# Altium footprint library transform.PcbLib: 46 footprints (part 1 of 3)
Each footprint in its own frame and in the unit in brackets; x right, y up, seen from the top. Pads: shape width x height; smd on the part's side, far side on the other; paste and mask are expansions set on the pad; w line width, h text height; cw(c..) or ccw(c..) is an arc to the next point about the centre after c.
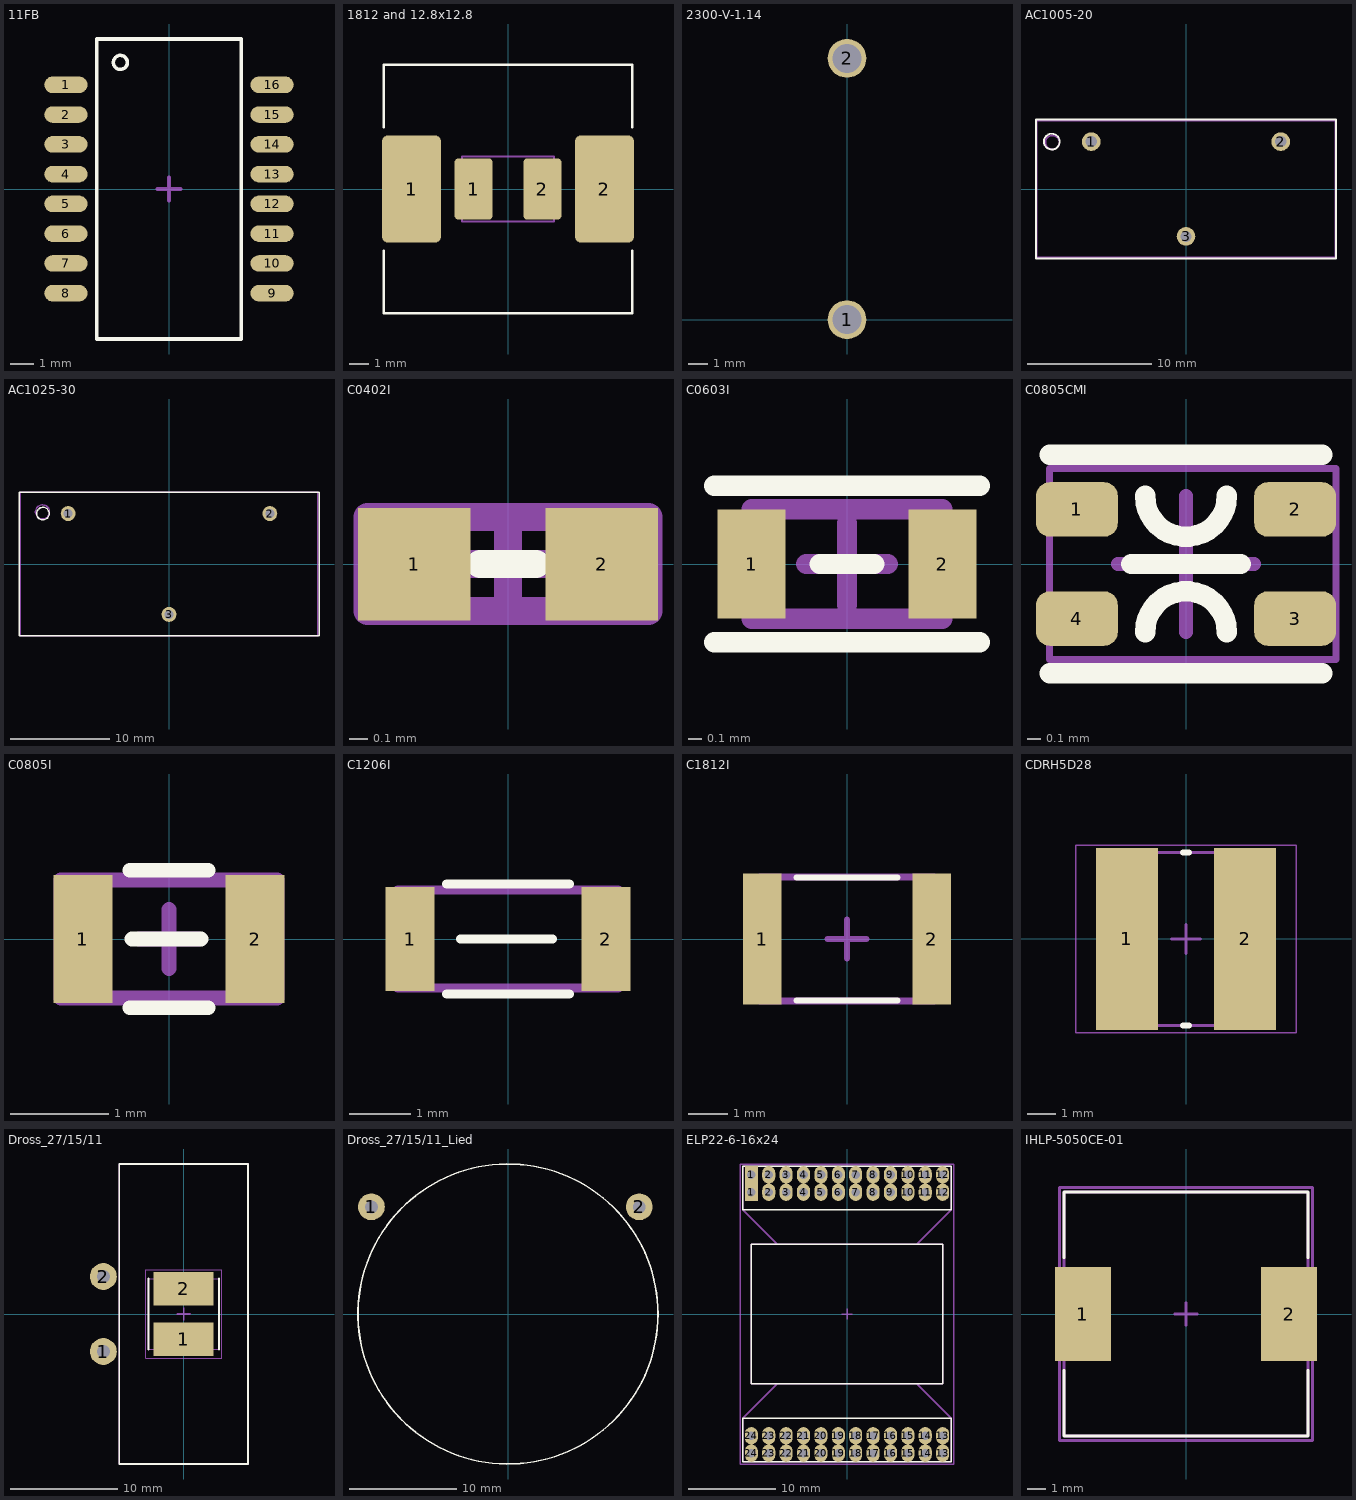
[diagram p0: the footprints below, top view; thin cyan lines are the x and y axes]

## 11FB [mm] "SOP, 16-Leads, Body 12,8x6,9mm (max), Pitch 1,27mm, IPC Low Density"
height 5.65
pads (16):
  oval 1.85x0.7 smd: 1(-4.4,4.445) 2(-4.4,3.175) 3(-4.4,1.905) 4(-4.4,0.635) 5(-4.4,-0.635) 6(-4.4,-1.905) 7(-4.4,-3.175) 8(-4.4,-4.445) 9(4.4,-4.445) 10(4.4,-3.175) 11(4.4,-1.905) 12(4.4,-0.635) 13(4.4,0.635) 14(4.4,1.905) 15(4.4,3.175) 16(4.4,4.445)
Top Overlay:
  circle w0.15: c-2.075,5.4 r0.3
  lines w0.15: -3.075,-6.4 3.075,-6.4 3.075,6.4 -3.075,6.4 -3.075,-6.4
  text "." at -4.5,5.5 h0.1
Mechanical 15:
  lines w0.15: -0.5,0 0.5,0 ; 0,-0.5 0,0.5
3D body "11FB-05NL.STEP": height 5.62, standoff -0.03, extent -5.3,-6.45 5.3,6.35

## 1812 and 12.8x12.8 [mm]
pads (4):
  rrect20% 3.1x5.6 smd: 1(-5.05,0) 2(5.05,0)
  rrect20% 2x3.2 smd: 1(-1.8,0) 2(1.8,0)
Top Overlay:
  lines w0.15: -6.5,-3.25 -6.5,-6.5 6.5,-6.5 6.5,-3.25 ; -6.5,3.25 -6.5,6.5 6.5,6.5 6.5,3.25
Top Courtyard:
  lines w0.1: -2.4,-1.7 2.4,-1.7 2.4,1.7 -2.4,1.7 -2.4,-1.7
3D body "B82464G4105M000.stp": height 4.7, standoff -0.02, extent -8.485,-8.485 8.485,8.485

## 2300-V-1.14 [mm]
height 29
pads (2):
  round 2 hole 1.5: 1(0,0) 2(0,13.5)
3D body "2300-V-1.14.STEP": height 29.46, standoff 0.5, extent -14.478,0.269 14.478,13.731

## AC1005-20 [mm]
height 23
pads (3):
  round 1.5 hole 0.9: 1(-7.62,3.81) 2(7.62,3.81) 3(0,-3.81)
Top Overlay:
  circle w0.15: c-10.795,3.81 r0.635
  lines w0.15: -12.065,-5.588 12.065,-5.588 12.065,5.588 -12.065,5.588 -12.065,-5.588
Mechanical 29:
  circle w0.15: c-10.75,3.75 r0.559
  lines w0.15: -12,-5.5 12,-5.5 12,5.5 -12,5.5 -12,-5.5
3D body: height 23.8, standoff 0, extent -12.064,-5.587 12.064,5.587

## AC1025-30 [mm]
height 30.2
pads (3):
  round 1.5 hole 0.9: 1(-10.16,5.08) 2(10.16,5.08) 3(0,-5.08)
Top Overlay:
  circle w0.15: c-12.7,5.08 r0.635
  lines w0.15: -15.113,-7.239 15.113,-7.239 15.113,7.239 -15.113,7.239 -15.113,-7.239
Mechanical 29:
  circle w0.15: c-12.75,5.25 r0.707
  lines w0.15: -15,-7.25 -15,7.25 15,7.25 15,-7.25 -15,-7.25
3D body: height 30.2, standoff 0, extent -15.113,-7.239 15.113,7.239

## C0402I [mm]
pads (2):
  rect 0.6x0.6 smd: 1(-0.5,0) 2(0.5,0)
Top Overlay:
  lines w0.15: -0.15,0 0.15,0
Top Courtyard:
  lines w0.15: -0.25,0 0,0 ; 0,-0.25 0,0 ; 0,0.25 0,0 ; 0.25,0 0,0 ; -0.75,-0.25 -0.75,0.25 0.75,0.25 0.75,-0.25 -0.75,-0.25
3D body "0402C.STEP": height 0.36, standoff 0, extent -0.525,-0.25 0.475,0.28

## C0603I [mm]
height 0.8
pads (2):
  rect 0.5x0.8 smd: 1(-0.7,0) 2(0.7,0)
Top Overlay:
  lines w0.15: -0.975,-0.575 0.975,-0.575 ; -0.975,0.575 0.975,0.575 ; -0.2,0 0.2,0
Top Courtyard:
  lines w0.15: -0.3,0 0.3,0 ; 0,-0.3 0,0.3 ; -0.7,-0.4 -0.7,0.4 0.7,0.4 0.7,-0.4 -0.7,-0.4
3D body: height 0.45, standoff 0, extent -0.7,-0.41 -0.5,0.41
3D body: height 0.45, standoff 0, extent 0.5,-0.41 0.7,0.41
3D body: height 0.45, standoff 0, extent -0.5,-0.41 0.5,0.41

## C0805CMI [mm] "Common Mode Inductor, Flat, 4-Leads, Pitch 0,80mm,  Body 1,20x2,00mm,  IPC High Density"
height 1.2
pads (4):
  rrect50% 0.6x0.4 smd: 1(-0.8,0.4) 2(0.8,0.4) 3(0.8,-0.4) 4(-0.8,-0.4)
Top Overlay:
  lines w0.15: -1,-0.8 1,-0.8 ; -1,0.8 1,0.8 ; -0.4,0 0.4,0 ; -0.3,-0.5 cw(c0,-0.5) 0.3,-0.5 ; -0.3,0.5 ccw(c0,0.5) 0.3,0.5
Top Courtyard:
  lines w0.05: -1,-0.7 -1,0.7 1.1,0.7 1.1,-0.7 -1,-0.7
  lines w0.1: -0.5,0 0.5,0 ; 0,-0.5 0,0.5
3D body: height 1.2, standoff 0, extent -1,-0.6 1,0.6

## C0805I [mm]
height 1
pads (2):
  rect 0.6x1.3 smd: 1(-0.875,0) 2(0.875,0)
Top Overlay:
  lines w0.15: -0.4,-0.7 0.4,-0.7 ; -0.4,0.7 0.4,0.7 ; -0.375,0 0.325,0
Top Courtyard:
  lines w0.15: -0.3,0 0.3,0 ; 0,-0.3 0,0.3 ; -1.1,-0.6 1.1,-0.6 1.1,0.6 -1.1,0.6 -1.1,-0.6
3D body: height 0.8, standoff 0, extent 0.4,-0.6 1,0.6
3D body: height 0.8, standoff 0, extent -0.4,-0.6 0.4,0.6
3D body: height 0.8, standoff 0, extent -1,-0.6 -0.4,0.6

## C1206I [mm]
pads (2):
  rect 0.8x1.7 smd: 1(-1.6,0) 2(1.6,0)
Top Overlay:
  lines w0.15: -1,-0.9 1,-0.9 ; -1,0.9 1,0.9 ; -0.775,0 0.725,0
Top Courtyard:
  lines w0.15: -1.8,-0.8 -1.8,0.8 1.8,0.8 1.8,-0.8 -1.8,-0.8
3D body: height 0.8, standoff 0, extent 0.9,-0.8 1.7,0.8
3D body: height 0.8, standoff 0, extent -0.9,-0.8 0.9,0.8
3D body: height 0.8, standoff 0, extent -1.7,-0.8 -0.9,0.8

## C1812I [mm]
height 1
pads (2):
  rect 1x3.35 smd: 1(-2.175,0) 2(2.175,0)
Top Overlay:
  lines w0.15: -1.3,-1.575 1.3,-1.575 ; -1.3,1.575 1.3,1.575
Top Courtyard:
  lines w0.15: -0.5,0 0.5,0 ; 0,-0.5 0,0.5 ; -2.3,-1.575 2.3,-1.575 2.3,1.575 -2.3,1.575 -2.3,-1.575
Mechanical 29:
  lines w0.15: -2.25,-1.6 2.25,-1.6 2.25,1.6 -2.25,1.6 -2.25,-1.6
  text ".Designator" at -2,-0.4 h1
3D body: height 1, standoff 0, extent 1.6,-1.6 2.3,1.6
3D body: height 1, standoff 0, extent -1.6,-1.6 1.6,1.6
3D body: height 1, standoff 0, extent -2.3,-1.6 -1.6,1.6

## CDRH5D28 [mm] "Precision Wire Wound Inductor, 2-Leads, Body 5,70x5,70mm, IPC Medium Density"
height 3
pads (2):
  rect 2.15x6.3 smd: 1(-2.05,0) 2(2.05,0)
Top Overlay:
  lines w0.2: -0.1,-3 0.1,-3 ; -0.1,3 0.1,3
Top Courtyard:
  lines w0.05: -3.825,-3.25 3.825,-3.25 3.825,3.25 -3.825,3.25 -3.825,-3.25
  lines w0.1: -0.5,0 0.5,0 ; 0,-0.5 0,0.5
Mechanical 13:
  lines w0.1: -3,-3 3,-3 3,3 -3,3 -3,-3
3D body: height 3, standoff 0, extent -3,-3 3,3

## Dross_27/15/11 [mm]
pads (4):
  round 2.5 hole 1.2: 1(-7.5,-3.5) 2(-7.5,3.5)
  rect 5.6x3.1 smd: 1(0,-2.35) 2(0,2.35)
Top Overlay:
  lines w0.15: -6,-14 -6,14 6,14 6,-14 -6,-14
  lines w0.2: -3.3,-3.3 -3.3,3.3 ; 3.3,-3.3 3.3,3.3
Top Courtyard:
  lines w0.1: -3.3,-3.3 -3.3,3.3 3.3,3.3 3.3,-3.3 -3.3,-3.3
Top 3D Body:
  lines w0.05: -3.55,-4.125 -3.55,4.125 3.55,4.125 3.55,-4.125 -3.55,-4.125
  lines w0.1: -0.5,0 0.5,0 ; 0,-0.5 0,0.5
Mechanical 15:
  lines w0.15: -0.6,0 0,0 ; 0,-0.6 0,0 ; 0,0.6 0,0 ; 0.6,0 0,0 ; -6,-14 6,-14 6,14 -6,14 -6,-14
3D body: height 27, standoff 0, extent -5.5,-13.5 5.5,13.5

## Dross_27/15/11_Lied [mm]
pads (2):
  round 2.5 hole 1.2: 1(-12.75,10) 2(12.25,10)
Top Overlay:
  circle w0.15: c0,0 r14
3D body: height 12, standoff 0, extent -13,-13 13,13

## ELP22-6-16x24 [mm]
height 12
pads (48):
  rect 1.5x2 hole 1: 1(-11,14) 1(-11,16)
  oval 1.5x2 hole 1: 2(-9,14) 2(-9,16) 3(-7,14) 3(-7,16) 4(-5,14) 4(-5,16) 5(-3,14) 5(-3,16) 6(-1,14) 6(-1,16) 7(1,14) 7(1,16) 8(3,14) 8(3,16) 9(5,14) 9(5,16) 10(7,14) 10(7,16) 11(9,14) 11(9,16) 12(11,14) 12(11,16) 13(11,-16) 13(11,-14) 14(9,-16) 14(9,-14) 15(7,-16) 15(7,-14) 16(5,-16) 16(5,-14) 17(3,-16) 17(3,-14) 18(1,-16) 18(1,-14) 19(-1,-16) 19(-1,-14) 20(-3,-16) 20(-3,-14) 21(-5,-16) 21(-5,-14) 22(-7,-16) 22(-7,-14) 23(-9,-16) 23(-9,-14) 24(-11,-16) 24(-11,-14)
Top Overlay:
  lines w0.15: -12,-17 12,-17 12,-12 -12,-12 -12,-17 ; -12,12 -12,17 12,17 12,12 -12,12 ; -11,-8 11,-8 11,8 -11,8 -11,-8
Mechanical 15:
  lines w0.15: -0.6,0 0,0 ; 0,-0.6 0,0 ; 0,0.6 0,0 ; 0.6,0 0,0 ; -12.25,-17.25 -12.25,17.25 12.25,17.25 12.25,-17.25 -12.25,-17.25
Mechanical 29:
  lines w0.15: -12,15 -12,17 ; -8,-8 -12,-12 -12,-13 -12,-17 12,-17 12,-13 12,-12 8,-8 ; -8,8 -12,12 -12,13 -12,17 ; 8,8 12,12 12,13 12,17 ; 12,15 12,17 ; -12,17 12,17 ; -11,-8 11,-8 11,8 -11,8 -11,-8
3D body: height 8, standoff 4, extent -12,-17 12,17
3D body "ELP22-6-16.STEP": height 11.4, standoff 0, extent -10.9,-7.9 10.9,7.9

## IHLP-5050CE-01 [mm]
height 3.5
pads (2):
  rect 3x5 smd: 1(-5.5,0) 2(5.5,0)
Top Overlay:
  lines w0.15: -6.5,-3 -6.5,-6.5 6.5,-6.5 6.5,-3 ; -6.5,3 -6.5,6.5 6.5,6.5 6.5,3
Mechanical 15:
  lines w0.15: -0.6,0 0,0 ; 0,-0.6 0,0 ; 0,0.6 0,0 ; 0.6,0 0,0 ; -6.75,-6.75 -6.75,6.75 6.75,6.75 6.75,-6.75 -6.75,-6.75
Mechanical 29:
  lines w0.15: -6.5,-6.5 -6.5,6.5 6.5,6.5 6.5,-6.5 -6.5,-6.5
3D body: height 3.5, standoff 0.1, extent -6.5,-6.5 6.5,6.5